# Altium integrated library Linear Technology PMIC-Switching Reg LTC1174-LTC3901.IntLib: 2647 symbols (part 101 of 310)
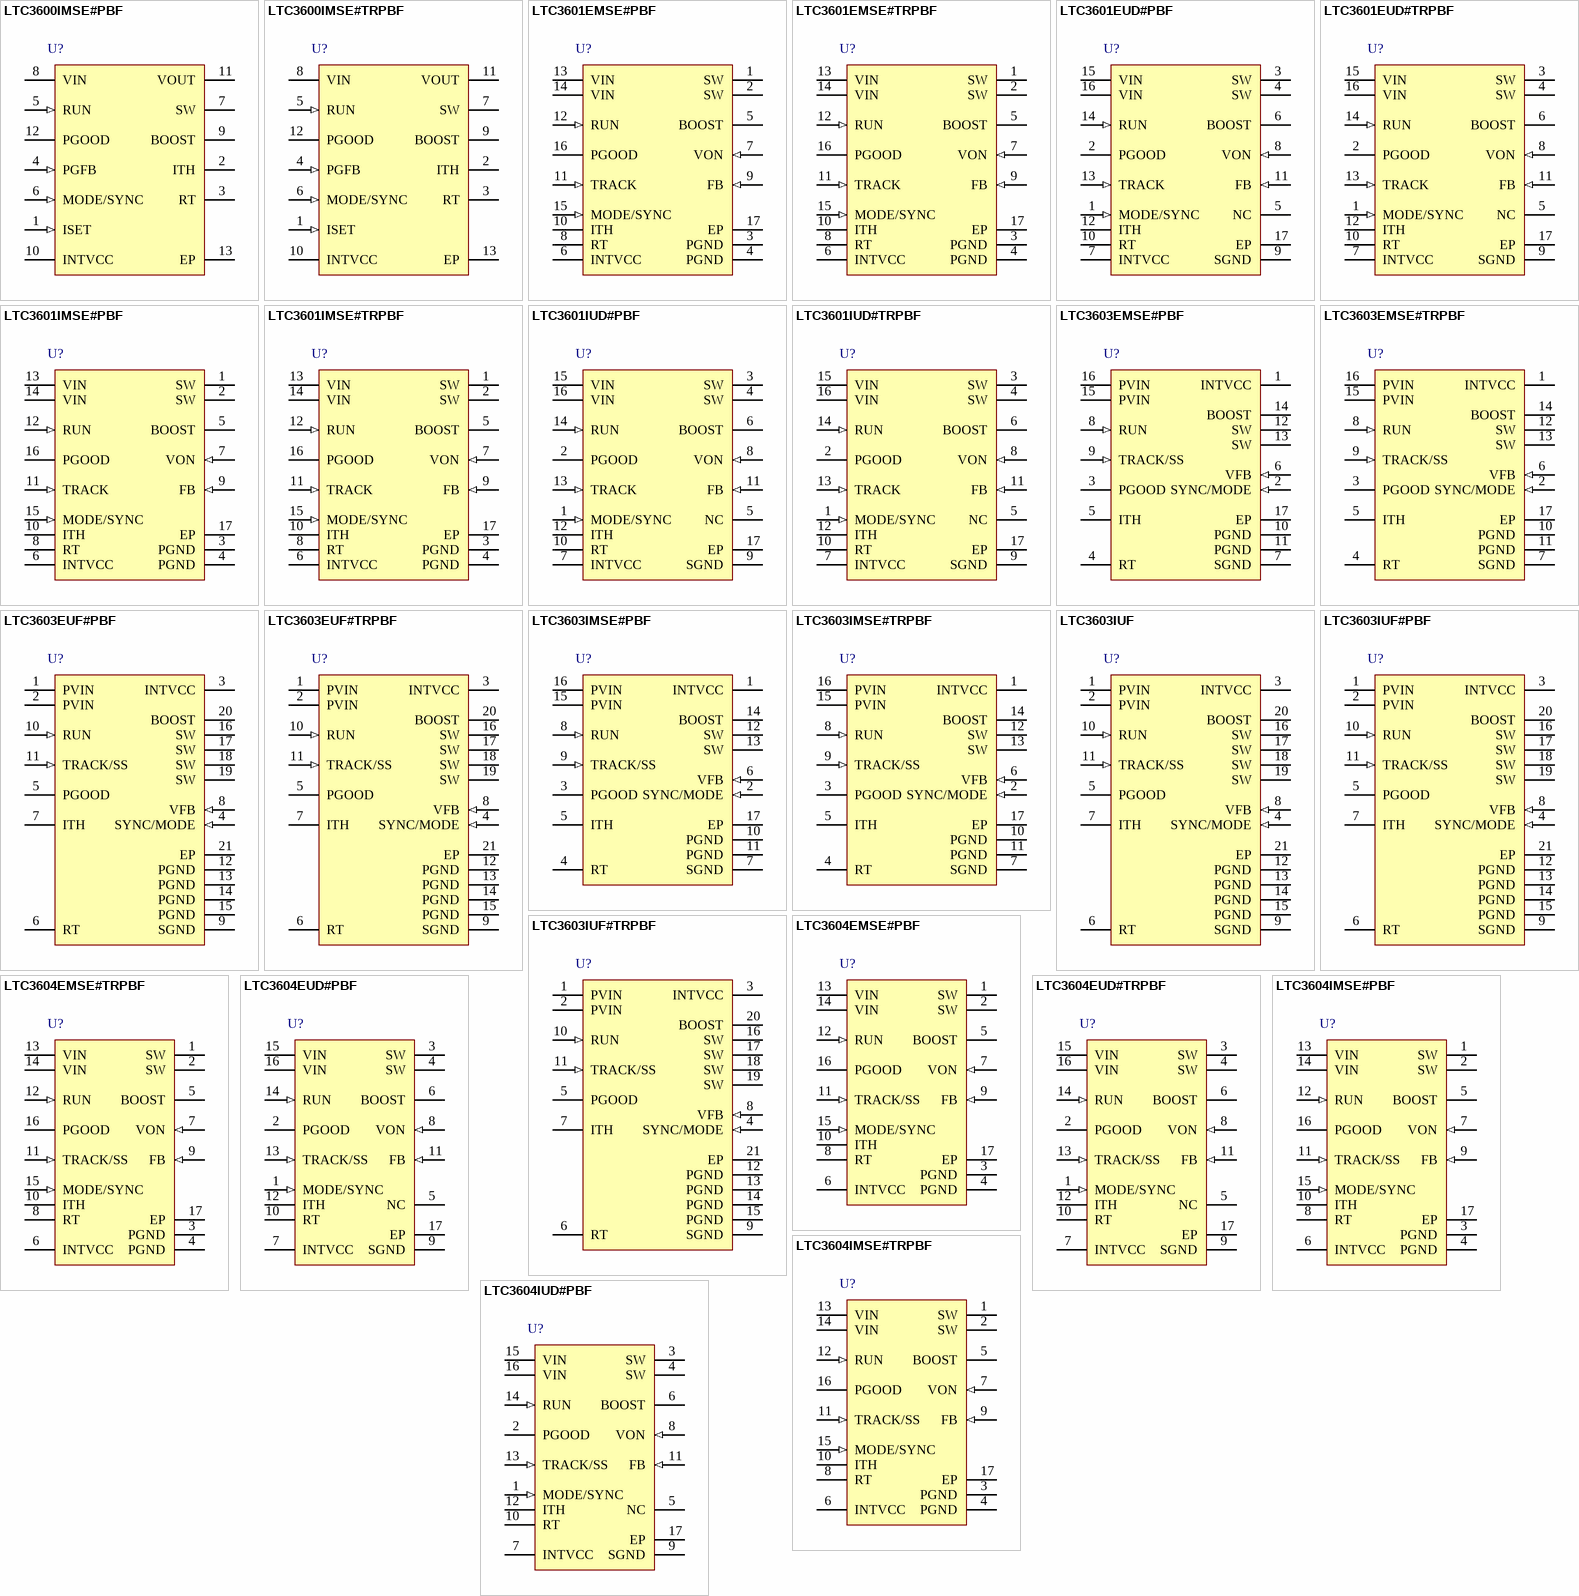
[diagram p173: symbols LTC3600IMSE#PBF to LTC3604IUD#PBF]

## LTC3604EMSE#TRPBF
designator U?
2.5 A, Monolithic Synchronous Step-Down Regulator, 16-pin SOP (MSE-16-EDP), -40 to 125 degC, Pb-Free, Tape and Reel; Manufacturer: Linear Technology; PartNumber: LTC3604EMSE#TRPBF; Number of Outputs: 1; PackageReference: MSE-16; PackageDescription: 16-Pin Plastic MSOP, Exposed Die Pad, Body 4.039 x 3 mm, Pitch 0.5 mm; Supplier 1: Digi-Key; Supplier Part Number 1: LTC3604EMSE#TRPBF-ND; RoHS: TRUE
footprint LT-MSE-16-EDP_N (SOP, 16-Leads, Body 4.1x3.1mm, Pitch 0.5mm, Thermal Pad 2.95x1.76mm, IPC Medium Density)
footprint LT-MSE-16-EDP_L (SOP, 16-Leads, Body 4.1x3.1mm, Pitch 0.5mm, Thermal Pad 2.95x1.76mm, IPC High Density)
footprint LT-MSE-16-EDP_M (SOP, 16-Leads, Body 4.1x3.1mm, Pitch 0.5mm, Thermal Pad 2.95x1.76mm, IPC Low Density)
pins: 1 SW (power) "Switch Node Output Pin. Connect this pin to the SW side of the external inductor. The normal operation voltage swing of this pin ranges from ground to PVIN.", 2 SW (power) "Switch Node Output Pin. Connect this pin to the SW side of the external inductor. The normal operation voltage swing of this pin ranges from ground to PVIN.", 3 PGND (power) "Power Ground Pin. The (-) terminal of the input bypass capacitor, CIN, and the (-) terminal of the output capacitor, COUT , should be tied to this pin with a low impedance connection. The exposed package pad must be soldered (See Datasheet)", 4 PGND (power) "Power Ground Pin. The (-) terminal of the input bypass capacitor, CIN, and the (-) terminal of the output capacitor, COUT , should be tied to this pin with a low impedance connection. The exposed package pad must be soldered (See Datasheet)", 5 BOOST "Boosted Floating Driver Supply Pin. The (+) terminal of the external bootstrap capacitor connects to this pin while the (-) terminal connects to the SW pin. The normal operation voltage swing of this pin ranges from a diode (See Datasheet)", 6 INTVCC (power) "Internal 3.3V Regulator Output Pin. This pin should be decoupled to PGND with a low ESR ceramic capacitor of 1uF or more.", 7 VON (in) "On-Time Voltage Input Pin. This pin sets the voltage trip point for the on-time comparator. Connect this pin to the regulated output to make the on-time proportional to the output voltage. The pin impedance is normally (See Datasheet)", 8 RT "Oscillator Frequency Program Pin. Connect an external resistor, between 80k to 400k, from this pin to SGND to program the LTC3604 switching frequency from 800kHz to 4MHz. When RT is tied to INTVCC, the switching frequency (See Datasheet)", 9 FB (in) "Output Voltage Feedback Pin. Input to the error amplifier that compares the feedback voltage to the internal 0.6V reference voltage. Connect this pin to the appropriate resistor divider network to program the desired output (See Datasheet)", 10 ITH "Error Amplifier Output and Switching Regulator Compensation Pin. Connect this pin to appropriate external components to compensate the regulator loop frequency response. Connect this pin to INTVCC to use the default internal (See Datasheet)", 11 TRACK/SS (in) "Output Voltage Tracking and Soft-Start Input Pin. Forcing a voltage below 0.6V on this pin overrides the internal reference input to the error amplifier. The LTC3604 will servo the FB pin to the TRACK voltage under this (See Datasheet)", 12 RUN (in) "Regulator Enable Pin. Enables chip operation by applying a voltage above 1.25V. A voltage below 1V on this pin places the part into shutdown. Do not float this pin.", 13 VIN (power) "Main Power Supply Input Pins. These pins should be closely decoupled to PGND with a low ESR capacitor of 10uF or more.", 14 VIN (power) "Main Power Supply Input Pins. These pins should be closely decoupled to PGND with a low ESR capacitor of 10uF or more.", 15 MODE/SYNC (in) "Mode Selection and External Synchronization Input Pin. This pin places the LTC3604 into forced continuous operation when tied to ground. High efficiency Burst Mode operation is enabled by either floating this pin or by tying (See Datasheet)", 16 PGOOD (hiz) "Open-Drain Power Good Output Pin. PGOOD is pulled to ground when the voltage at the FB pin is not within +/-8% (typical) of the internal 0.6V reference. PGOOD becomes high impedance once the voltage at the FB pin returns to (See Datasheet)", 17 EP (power) "Signal Ground Pin. This pin should have a low noise connection to reference ground. The feedback resistor network, external compensation network and RT resistor should be connected to this ground. In the MSE package, this (See Datasheet)"

## LTC3604EUD#PBF
designator U?
2.5 A, Monolithic Synchronous Step-Down Regulator, 16-pin QFN (UD-16), -40 to 125 degC, Pb-Free; Manufacturer: Linear Technology; PartNumber: LTC3604EUD#PBF; Number of Outputs: 1; PackageReference: UD-16; PackageDescription: 16-Pin Plastic QFN, Body 3 x 3 mm, Pitch 0.5 mm; Supplier 1: Digi-Key; Supplier Part Number 1: LTC3604EUD#PBF-ND; RoHS: TRUE; Code_JEDEC: MO-220
footprint LT-UD-16_N (QFN, 16-Leads, Body 3x3mm, Pitch 0.5mm, Thermal Pad 1.45x1.45mm, IPC Medium Density)
footprint LT-UD-16_L (QFN, 16-Leads, Body 3x3mm, Pitch 0.5mm, Thermal Pad 1.45x1.45mm, IPC High Density)
footprint LT-UD-16_M (QFN, 16-Leads, Body 3x3mm, Pitch 0.5mm, Thermal Pad 1.45x1.45mm, IPC Low Density)
pins: 1 MODE/SYNC (in) "Mode Selection and External Synchronization Input Pin. This pin places the LTC3604 into forced continuous operation when tied to ground. High efficiency Burst Mode operation is enabled by either floating this pin or by tying (See Datasheet)", 2 PGOOD (hiz) "Open-Drain Power Good Output Pin. PGOOD is pulled to ground when the voltage at the FB pin is not within +/-8% (typical) of the internal 0.6V reference. PGOOD becomes high impedance once the voltage at the FB pin returns to (See Datasheet)", 3 SW (power) "Switch Node Output Pin. Connect this pin to the SW side of the external inductor. The normal operation voltage swing of this pin ranges from ground to PVIN.", 4 SW (power) "Switch Node Output Pin. Connect this pin to the SW side of the external inductor. The normal operation voltage swing of this pin ranges from ground to PVIN.", 5 NC, 6 BOOST "Boosted Floating Driver Supply Pin. The (+) terminal of the external bootstrap capacitor connects to this pin while the (-) terminal connects to the SW pin. The normal operation voltage swing of this pin ranges from a diode (See Datasheet)", 7 INTVCC (power) "Internal 3.3V Regulator Output Pin. This pin should be decoupled to PGND with a low ESR ceramic capacitor of 1uF or more.", 8 VON (in) "On-Time Voltage Input Pin. This pin sets the voltage trip point for the on-time comparator. Connect this pin to the regulated output to make the on-time proportional to the output voltage. The pin impedance is normally (See Datasheet)", 9 SGND (power) "Signal Ground Pin. This pin should have a low noise connection to reference ground. The feedback resistor network, external compensation network and RT resistor should be connected to this ground. In the MSE package, this (See Datasheet)", 10 RT "Oscillator Frequency Program Pin. Connect an external resistor, between 80k to 400k, from this pin to SGND to program the LTC3604 switching frequency from 800kHz to 4MHz. When RT is tied to INTVCC, the switching frequency (See Datasheet)", 11 FB (in) "Output Voltage Feedback Pin. Input to the error amplifier that compares the feedback voltage to the internal 0.6V reference voltage. Connect this pin to the appropriate resistor divider network to program the desired output (See Datasheet)", 12 ITH "Error Amplifier Output and Switching Regulator Compensation Pin. Connect this pin to appropriate external components to compensate the regulator loop frequency response. Connect this pin to INTVCC to use the default internal (See Datasheet)", 13 TRACK/SS (in) "Output Voltage Tracking and Soft-Start Input Pin. Forcing a voltage below 0.6V on this pin overrides the internal reference input to the error amplifier. The LTC3604 will servo the FB pin to the TRACK voltage under this (See Datasheet)", 14 RUN (in) "Regulator Enable Pin. Enables chip operation by applying a voltage above 1.25V. A voltage below 1V on this pin places the part into shutdown. Do not float this pin.", 15 VIN (power) "Main Power Supply Input Pins. These pins should be closely decoupled to PGND with a low ESR capacitor of 10uF or more.", 16 VIN (power) "Main Power Supply Input Pins. These pins should be closely decoupled to PGND with a low ESR capacitor of 10uF or more.", 17 EP (power) "Power Ground Pin. The (-) terminal of the input bypass capacitor, CIN, and the (-) terminal of the output capacitor, COUT , should be tied to this pin with a low impedance connection. The exposed package pad must be soldered (See Datasheet)"

## LTC3604EUD#TRPBF
designator U?
2.5 A, Monolithic Synchronous Step-Down Regulator, 16-pin QFN (UD-16), -40 to 125 degC, Pb-Free, Tape and Reel; Manufacturer: Linear Technology; PartNumber: LTC3604EUD#TRPBF; Number of Outputs: 1; PackageReference: UD-16; PackageDescription: 16-Pin Plastic QFN, Body 3 x 3 mm, Pitch 0.5 mm; Supplier 1: Digi-Key; Supplier Part Number 1: LTC3604EUD#TRPBF-ND; RoHS: TRUE; Code_JEDEC: MO-220
footprint LT-UD-16_N (QFN, 16-Leads, Body 3x3mm, Pitch 0.5mm, Thermal Pad 1.45x1.45mm, IPC Medium Density)
footprint LT-UD-16_L (QFN, 16-Leads, Body 3x3mm, Pitch 0.5mm, Thermal Pad 1.45x1.45mm, IPC High Density)
footprint LT-UD-16_M (QFN, 16-Leads, Body 3x3mm, Pitch 0.5mm, Thermal Pad 1.45x1.45mm, IPC Low Density)
pins: 1 MODE/SYNC (in) "Mode Selection and External Synchronization Input Pin. This pin places the LTC3604 into forced continuous operation when tied to ground. High efficiency Burst Mode operation is enabled by either floating this pin or by tying (See Datasheet)", 2 PGOOD (hiz) "Open-Drain Power Good Output Pin. PGOOD is pulled to ground when the voltage at the FB pin is not within +/-8% (typical) of the internal 0.6V reference. PGOOD becomes high impedance once the voltage at the FB pin returns to (See Datasheet)", 3 SW (power) "Switch Node Output Pin. Connect this pin to the SW side of the external inductor. The normal operation voltage swing of this pin ranges from ground to PVIN.", 4 SW (power) "Switch Node Output Pin. Connect this pin to the SW side of the external inductor. The normal operation voltage swing of this pin ranges from ground to PVIN.", 5 NC, 6 BOOST "Boosted Floating Driver Supply Pin. The (+) terminal of the external bootstrap capacitor connects to this pin while the (-) terminal connects to the SW pin. The normal operation voltage swing of this pin ranges from a diode (See Datasheet)", 7 INTVCC (power) "Internal 3.3V Regulator Output Pin. This pin should be decoupled to PGND with a low ESR ceramic capacitor of 1uF or more.", 8 VON (in) "On-Time Voltage Input Pin. This pin sets the voltage trip point for the on-time comparator. Connect this pin to the regulated output to make the on-time proportional to the output voltage. The pin impedance is normally (See Datasheet)", 9 SGND (power) "Signal Ground Pin. This pin should have a low noise connection to reference ground. The feedback resistor network, external compensation network and RT resistor should be connected to this ground. In the MSE package, this (See Datasheet)", 10 RT "Oscillator Frequency Program Pin. Connect an external resistor, between 80k to 400k, from this pin to SGND to program the LTC3604 switching frequency from 800kHz to 4MHz. When RT is tied to INTVCC, the switching frequency (See Datasheet)", 11 FB (in) "Output Voltage Feedback Pin. Input to the error amplifier that compares the feedback voltage to the internal 0.6V reference voltage. Connect this pin to the appropriate resistor divider network to program the desired output (See Datasheet)", 12 ITH "Error Amplifier Output and Switching Regulator Compensation Pin. Connect this pin to appropriate external components to compensate the regulator loop frequency response. Connect this pin to INTVCC to use the default internal (See Datasheet)", 13 TRACK/SS (in) "Output Voltage Tracking and Soft-Start Input Pin. Forcing a voltage below 0.6V on this pin overrides the internal reference input to the error amplifier. The LTC3604 will servo the FB pin to the TRACK voltage under this (See Datasheet)", 14 RUN (in) "Regulator Enable Pin. Enables chip operation by applying a voltage above 1.25V. A voltage below 1V on this pin places the part into shutdown. Do not float this pin.", 15 VIN (power) "Main Power Supply Input Pins. These pins should be closely decoupled to PGND with a low ESR capacitor of 10uF or more.", 16 VIN (power) "Main Power Supply Input Pins. These pins should be closely decoupled to PGND with a low ESR capacitor of 10uF or more.", 17 EP (power) "Power Ground Pin. The (-) terminal of the input bypass capacitor, CIN, and the (-) terminal of the output capacitor, COUT , should be tied to this pin with a low impedance connection. The exposed package pad must be soldered (See Datasheet)"

## LTC3604IMSE#PBF
designator U?
2.5 A, Monolithic Synchronous Step-Down Regulator, 16-pin SOP (MSE-16-EDP), -40 to 125 degC, Pb-Free; Manufacturer: Linear Technology; PartNumber: LTC3604IMSE#PBF; Number of Outputs: 1; PackageReference: MSE-16; PackageDescription: 16-Pin Plastic MSOP, Exposed Die Pad, Body 4.039 x 3 mm, Pitch 0.5 mm; Supplier 1: Digi-Key; Supplier Part Number 1: LTC3604IMSE#PBF-ND; RoHS: TRUE
footprint LT-MSE-16-EDP_N (SOP, 16-Leads, Body 4.1x3.1mm, Pitch 0.5mm, Thermal Pad 2.95x1.76mm, IPC Medium Density)
footprint LT-MSE-16-EDP_L (SOP, 16-Leads, Body 4.1x3.1mm, Pitch 0.5mm, Thermal Pad 2.95x1.76mm, IPC High Density)
footprint LT-MSE-16-EDP_M (SOP, 16-Leads, Body 4.1x3.1mm, Pitch 0.5mm, Thermal Pad 2.95x1.76mm, IPC Low Density)
pins: 1 SW (power) "Switch Node Output Pin. Connect this pin to the SW side of the external inductor. The normal operation voltage swing of this pin ranges from ground to PVIN.", 2 SW (power) "Switch Node Output Pin. Connect this pin to the SW side of the external inductor. The normal operation voltage swing of this pin ranges from ground to PVIN.", 3 PGND (power) "Power Ground Pin. The (-) terminal of the input bypass capacitor, CIN, and the (-) terminal of the output capacitor, COUT , should be tied to this pin with a low impedance connection. The exposed package pad must be soldered (See Datasheet)", 4 PGND (power) "Power Ground Pin. The (-) terminal of the input bypass capacitor, CIN, and the (-) terminal of the output capacitor, COUT , should be tied to this pin with a low impedance connection. The exposed package pad must be soldered (See Datasheet)", 5 BOOST "Boosted Floating Driver Supply Pin. The (+) terminal of the external bootstrap capacitor connects to this pin while the (-) terminal connects to the SW pin. The normal operation voltage swing of this pin ranges from a diode (See Datasheet)", 6 INTVCC (power) "Internal 3.3V Regulator Output Pin. This pin should be decoupled to PGND with a low ESR ceramic capacitor of 1uF or more.", 7 VON (in) "On-Time Voltage Input Pin. This pin sets the voltage trip point for the on-time comparator. Connect this pin to the regulated output to make the on-time proportional to the output voltage. The pin impedance is normally (See Datasheet)", 8 RT "Oscillator Frequency Program Pin. Connect an external resistor, between 80k to 400k, from this pin to SGND to program the LTC3604 switching frequency from 800kHz to 4MHz. When RT is tied to INTVCC, the switching frequency (See Datasheet)", 9 FB (in) "Output Voltage Feedback Pin. Input to the error amplifier that compares the feedback voltage to the internal 0.6V reference voltage. Connect this pin to the appropriate resistor divider network to program the desired output (See Datasheet)", 10 ITH "Error Amplifier Output and Switching Regulator Compensation Pin. Connect this pin to appropriate external components to compensate the regulator loop frequency response. Connect this pin to INTVCC to use the default internal (See Datasheet)", 11 TRACK/SS (in) "Output Voltage Tracking and Soft-Start Input Pin. Forcing a voltage below 0.6V on this pin overrides the internal reference input to the error amplifier. The LTC3604 will servo the FB pin to the TRACK voltage under this (See Datasheet)", 12 RUN (in) "Regulator Enable Pin. Enables chip operation by applying a voltage above 1.25V. A voltage below 1V on this pin places the part into shutdown. Do not float this pin.", 13 VIN (power) "Main Power Supply Input Pins. These pins should be closely decoupled to PGND with a low ESR capacitor of 10uF or more.", 14 VIN (power) "Main Power Supply Input Pins. These pins should be closely decoupled to PGND with a low ESR capacitor of 10uF or more.", 15 MODE/SYNC (in) "Mode Selection and External Synchronization Input Pin. This pin places the LTC3604 into forced continuous operation when tied to ground. High efficiency Burst Mode operation is enabled by either floating this pin or by tying (See Datasheet)", 16 PGOOD (hiz) "Open-Drain Power Good Output Pin. PGOOD is pulled to ground when the voltage at the FB pin is not within +/-8% (typical) of the internal 0.6V reference. PGOOD becomes high impedance once the voltage at the FB pin returns to (See Datasheet)", 17 EP (power) "Signal Ground Pin. This pin should have a low noise connection to reference ground. The feedback resistor network, external compensation network and RT resistor should be connected to this ground. In the MSE package, this (See Datasheet)"

## LTC3604IMSE#TRPBF
designator U?
2.5 A, Monolithic Synchronous Step-Down Regulator, 16-pin SOP (MSE-16-EDP), -40 to 125 degC, Pb-Free, Tape and Reel; Manufacturer: Linear Technology; PartNumber: LTC3604IMSE#TRPBF; Number of Outputs: 1; PackageReference: MSE-16; PackageDescription: 16-Pin Plastic MSOP, Exposed Die Pad, Body 4.039 x 3 mm, Pitch 0.5 mm; Supplier 1: Digi-Key; Supplier Part Number 1: LTC3604IMSE#TRPBF-ND; RoHS: TRUE
footprint LT-MSE-16-EDP_N (SOP, 16-Leads, Body 4.1x3.1mm, Pitch 0.5mm, Thermal Pad 2.95x1.76mm, IPC Medium Density)
footprint LT-MSE-16-EDP_L (SOP, 16-Leads, Body 4.1x3.1mm, Pitch 0.5mm, Thermal Pad 2.95x1.76mm, IPC High Density)
footprint LT-MSE-16-EDP_M (SOP, 16-Leads, Body 4.1x3.1mm, Pitch 0.5mm, Thermal Pad 2.95x1.76mm, IPC Low Density)
pins: 1 SW (power) "Switch Node Output Pin. Connect this pin to the SW side of the external inductor. The normal operation voltage swing of this pin ranges from ground to PVIN.", 2 SW (power) "Switch Node Output Pin. Connect this pin to the SW side of the external inductor. The normal operation voltage swing of this pin ranges from ground to PVIN.", 3 PGND (power) "Power Ground Pin. The (-) terminal of the input bypass capacitor, CIN, and the (-) terminal of the output capacitor, COUT , should be tied to this pin with a low impedance connection. The exposed package pad must be soldered (See Datasheet)", 4 PGND (power) "Power Ground Pin. The (-) terminal of the input bypass capacitor, CIN, and the (-) terminal of the output capacitor, COUT , should be tied to this pin with a low impedance connection. The exposed package pad must be soldered (See Datasheet)", 5 BOOST "Boosted Floating Driver Supply Pin. The (+) terminal of the external bootstrap capacitor connects to this pin while the (-) terminal connects to the SW pin. The normal operation voltage swing of this pin ranges from a diode (See Datasheet)", 6 INTVCC (power) "Internal 3.3V Regulator Output Pin. This pin should be decoupled to PGND with a low ESR ceramic capacitor of 1uF or more.", 7 VON (in) "On-Time Voltage Input Pin. This pin sets the voltage trip point for the on-time comparator. Connect this pin to the regulated output to make the on-time proportional to the output voltage. The pin impedance is normally (See Datasheet)", 8 RT "Oscillator Frequency Program Pin. Connect an external resistor, between 80k to 400k, from this pin to SGND to program the LTC3604 switching frequency from 800kHz to 4MHz. When RT is tied to INTVCC, the switching frequency (See Datasheet)", 9 FB (in) "Output Voltage Feedback Pin. Input to the error amplifier that compares the feedback voltage to the internal 0.6V reference voltage. Connect this pin to the appropriate resistor divider network to program the desired output (See Datasheet)", 10 ITH "Error Amplifier Output and Switching Regulator Compensation Pin. Connect this pin to appropriate external components to compensate the regulator loop frequency response. Connect this pin to INTVCC to use the default internal (See Datasheet)", 11 TRACK/SS (in) "Output Voltage Tracking and Soft-Start Input Pin. Forcing a voltage below 0.6V on this pin overrides the internal reference input to the error amplifier. The LTC3604 will servo the FB pin to the TRACK voltage under this (See Datasheet)", 12 RUN (in) "Regulator Enable Pin. Enables chip operation by applying a voltage above 1.25V. A voltage below 1V on this pin places the part into shutdown. Do not float this pin.", 13 VIN (power) "Main Power Supply Input Pins. These pins should be closely decoupled to PGND with a low ESR capacitor of 10uF or more.", 14 VIN (power) "Main Power Supply Input Pins. These pins should be closely decoupled to PGND with a low ESR capacitor of 10uF or more.", 15 MODE/SYNC (in) "Mode Selection and External Synchronization Input Pin. This pin places the LTC3604 into forced continuous operation when tied to ground. High efficiency Burst Mode operation is enabled by either floating this pin or by tying (See Datasheet)", 16 PGOOD (hiz) "Open-Drain Power Good Output Pin. PGOOD is pulled to ground when the voltage at the FB pin is not within +/-8% (typical) of the internal 0.6V reference. PGOOD becomes high impedance once the voltage at the FB pin returns to (See Datasheet)", 17 EP (power) "Signal Ground Pin. This pin should have a low noise connection to reference ground. The feedback resistor network, external compensation network and RT resistor should be connected to this ground. In the MSE package, this (See Datasheet)"

## LTC3604IUD#PBF
designator U?
2.5 A, Monolithic Synchronous Step-Down Regulator, 16-pin QFN (UD-16), -40 to 125 degC, Pb-Free; Manufacturer: Linear Technology; PartNumber: LTC3604IUD#PBF; Number of Outputs: 1; PackageReference: UD-16; PackageDescription: 16-Pin Plastic QFN, Body 3 x 3 mm, Pitch 0.5 mm; Supplier 1: Digi-Key; Supplier Part Number 1: LTC3604IUD#PBF-ND; RoHS: TRUE; Code_JEDEC: MO-220
footprint LT-UD-16_N (QFN, 16-Leads, Body 3x3mm, Pitch 0.5mm, Thermal Pad 1.45x1.45mm, IPC Medium Density)
footprint LT-UD-16_L (QFN, 16-Leads, Body 3x3mm, Pitch 0.5mm, Thermal Pad 1.45x1.45mm, IPC High Density)
footprint LT-UD-16_M (QFN, 16-Leads, Body 3x3mm, Pitch 0.5mm, Thermal Pad 1.45x1.45mm, IPC Low Density)
pins: 1 MODE/SYNC (in) "Mode Selection and External Synchronization Input Pin. This pin places the LTC3604 into forced continuous operation when tied to ground. High efficiency Burst Mode operation is enabled by either floating this pin or by tying (See Datasheet)", 2 PGOOD (hiz) "Open-Drain Power Good Output Pin. PGOOD is pulled to ground when the voltage at the FB pin is not within +/-8% (typical) of the internal 0.6V reference. PGOOD becomes high impedance once the voltage at the FB pin returns to (See Datasheet)", 3 SW (power) "Switch Node Output Pin. Connect this pin to the SW side of the external inductor. The normal operation voltage swing of this pin ranges from ground to PVIN.", 4 SW (power) "Switch Node Output Pin. Connect this pin to the SW side of the external inductor. The normal operation voltage swing of this pin ranges from ground to PVIN.", 5 NC, 6 BOOST "Boosted Floating Driver Supply Pin. The (+) terminal of the external bootstrap capacitor connects to this pin while the (-) terminal connects to the SW pin. The normal operation voltage swing of this pin ranges from a diode (See Datasheet)", 7 INTVCC (power) "Internal 3.3V Regulator Output Pin. This pin should be decoupled to PGND with a low ESR ceramic capacitor of 1uF or more.", 8 VON (in) "On-Time Voltage Input Pin. This pin sets the voltage trip point for the on-time comparator. Connect this pin to the regulated output to make the on-time proportional to the output voltage. The pin impedance is normally (See Datasheet)", 9 SGND (power) "Signal Ground Pin. This pin should have a low noise connection to reference ground. The feedback resistor network, external compensation network and RT resistor should be connected to this ground. In the MSE package, this (See Datasheet)", 10 RT "Oscillator Frequency Program Pin. Connect an external resistor, between 80k to 400k, from this pin to SGND to program the LTC3604 switching frequency from 800kHz to 4MHz. When RT is tied to INTVCC, the switching frequency (See Datasheet)", 11 FB (in) "Output Voltage Feedback Pin. Input to the error amplifier that compares the feedback voltage to the internal 0.6V reference voltage. Connect this pin to the appropriate resistor divider network to program the desired output (See Datasheet)", 12 ITH "Error Amplifier Output and Switching Regulator Compensation Pin. Connect this pin to appropriate external components to compensate the regulator loop frequency response. Connect this pin to INTVCC to use the default internal (See Datasheet)", 13 TRACK/SS (in) "Output Voltage Tracking and Soft-Start Input Pin. Forcing a voltage below 0.6V on this pin overrides the internal reference input to the error amplifier. The LTC3604 will servo the FB pin to the TRACK voltage under this (See Datasheet)", 14 RUN (in) "Regulator Enable Pin. Enables chip operation by applying a voltage above 1.25V. A voltage below 1V on this pin places the part into shutdown. Do not float this pin.", 15 VIN (power) "Main Power Supply Input Pins. These pins should be closely decoupled to PGND with a low ESR capacitor of 10uF or more.", 16 VIN (power) "Main Power Supply Input Pins. These pins should be closely decoupled to PGND with a low ESR capacitor of 10uF or more.", 17 EP (power) "Power Ground Pin. The (-) terminal of the input bypass capacitor, CIN, and the (-) terminal of the output capacitor, COUT , should be tied to this pin with a low impedance connection. The exposed package pad must be soldered (See Datasheet)"

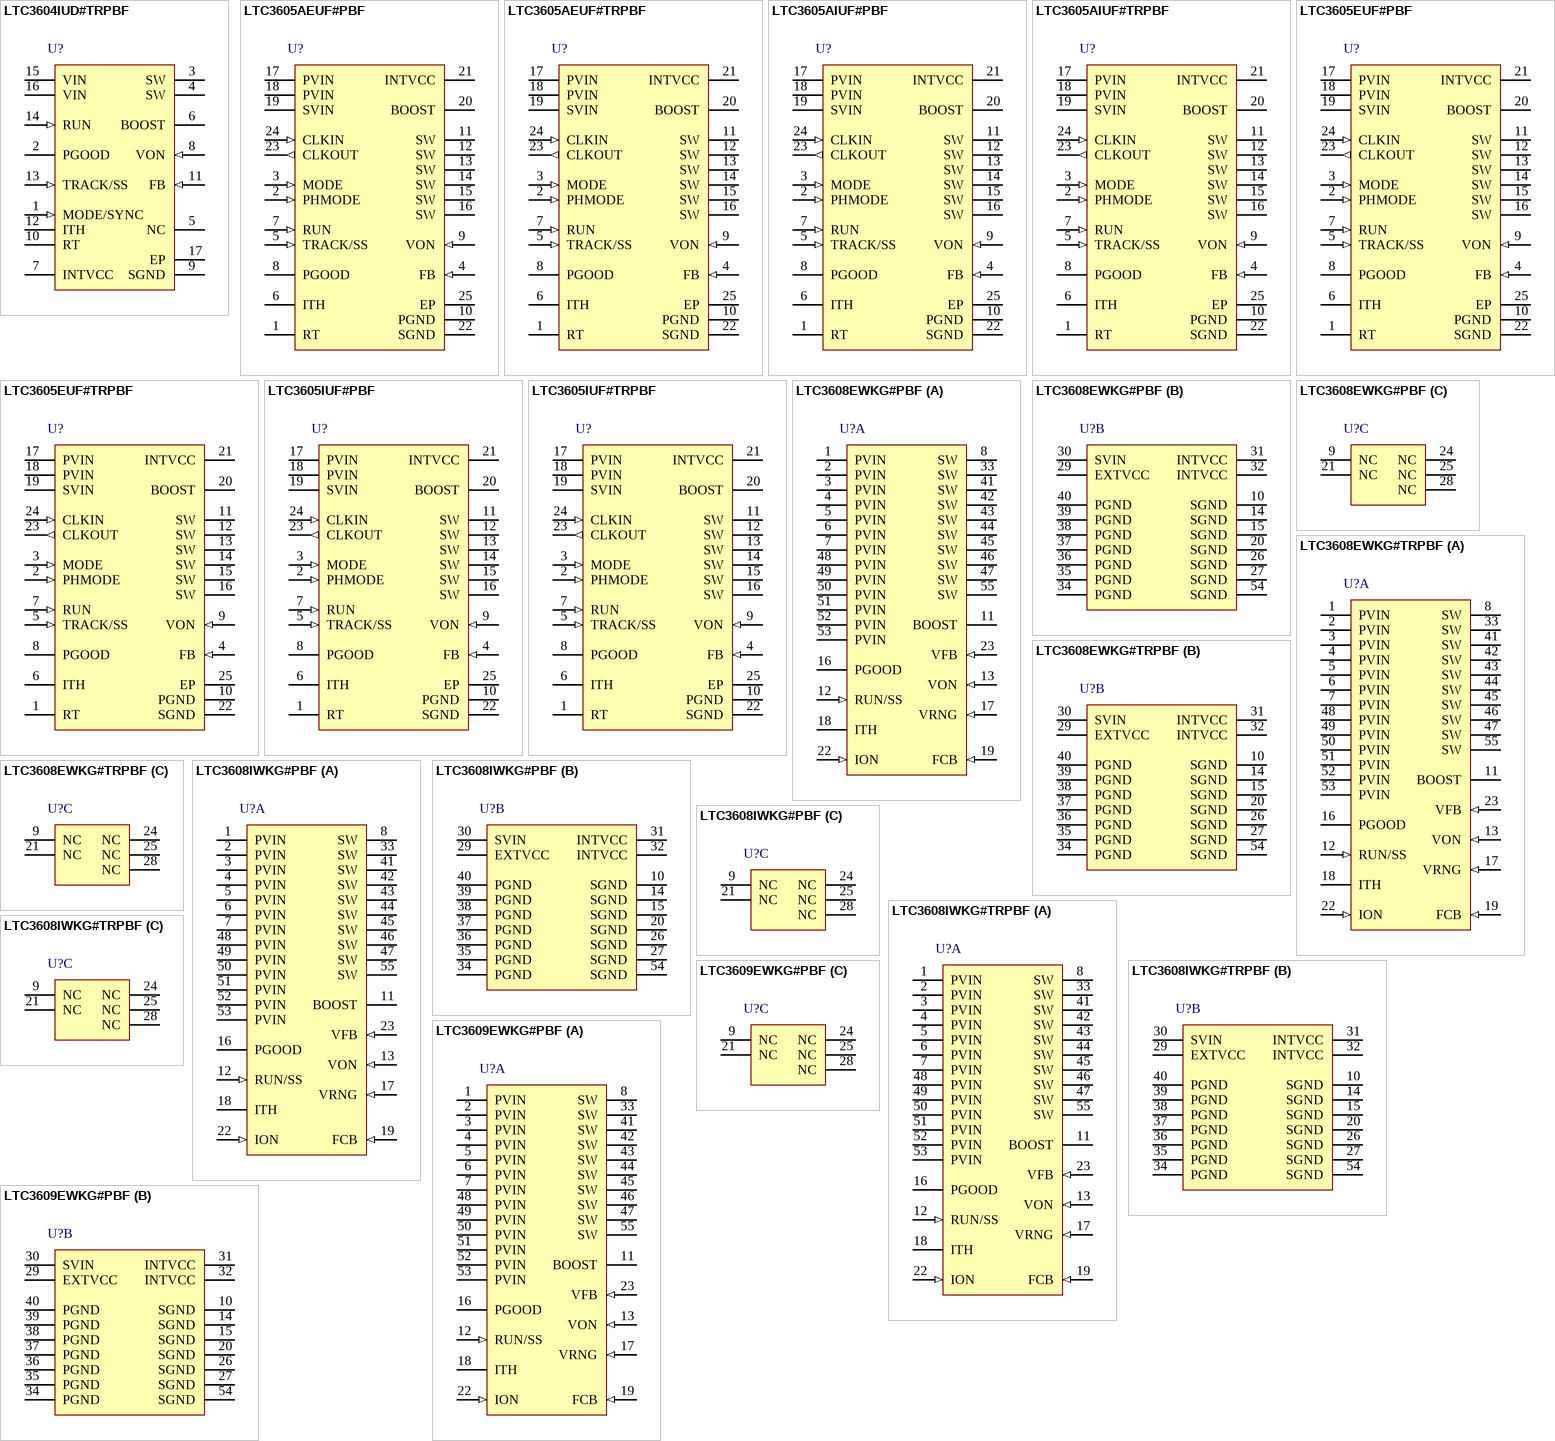
[diagram p37: symbols LTC3604IUD#TRPBF to LTC3609EWKG#PBF]

## LTC3604IUD#TRPBF
designator U?
2.5 A, Monolithic Synchronous Step-Down Regulator, 16-pin QFN (UD-16), -40 to 125 degC, Pb-Free, Tape and Reel; Manufacturer: Linear Technology; PartNumber: LTC3604IUD#TRPBF; Number of Outputs: 1; PackageReference: UD-16; PackageDescription: 16-Pin Plastic QFN, Body 3 x 3 mm, Pitch 0.5 mm; Supplier 1: Digi-Key; Supplier Part Number 1: LTC3604IUD#TRPBF-ND; RoHS: TRUE; Code_JEDEC: MO-220
footprint LT-UD-16_N (QFN, 16-Leads, Body 3x3mm, Pitch 0.5mm, Thermal Pad 1.45x1.45mm, IPC Medium Density)
footprint LT-UD-16_L (QFN, 16-Leads, Body 3x3mm, Pitch 0.5mm, Thermal Pad 1.45x1.45mm, IPC High Density)
footprint LT-UD-16_M (QFN, 16-Leads, Body 3x3mm, Pitch 0.5mm, Thermal Pad 1.45x1.45mm, IPC Low Density)
pins: 1 MODE/SYNC (in) "Mode Selection and External Synchronization Input Pin. This pin places the LTC3604 into forced continuous operation when tied to ground. High efficiency Burst Mode operation is enabled by either floating this pin or by tying (See Datasheet)", 2 PGOOD (hiz) "Open-Drain Power Good Output Pin. PGOOD is pulled to ground when the voltage at the FB pin is not within +/-8% (typical) of the internal 0.6V reference. PGOOD becomes high impedance once the voltage at the FB pin returns to (See Datasheet)", 3 SW (power) "Switch Node Output Pin. Connect this pin to the SW side of the external inductor. The normal operation voltage swing of this pin ranges from ground to PVIN.", 4 SW (power) "Switch Node Output Pin. Connect this pin to the SW side of the external inductor. The normal operation voltage swing of this pin ranges from ground to PVIN.", 5 NC, 6 BOOST "Boosted Floating Driver Supply Pin. The (+) terminal of the external bootstrap capacitor connects to this pin while the (-) terminal connects to the SW pin. The normal operation voltage swing of this pin ranges from a diode (See Datasheet)", 7 INTVCC (power) "Internal 3.3V Regulator Output Pin. This pin should be decoupled to PGND with a low ESR ceramic capacitor of 1uF or more.", 8 VON (in) "On-Time Voltage Input Pin. This pin sets the voltage trip point for the on-time comparator. Connect this pin to the regulated output to make the on-time proportional to the output voltage. The pin impedance is normally (See Datasheet)", 9 SGND (power) "Signal Ground Pin. This pin should have a low noise connection to reference ground. The feedback resistor network, external compensation network and RT resistor should be connected to this ground. In the MSE package, this (See Datasheet)", 10 RT "Oscillator Frequency Program Pin. Connect an external resistor, between 80k to 400k, from this pin to SGND to program the LTC3604 switching frequency from 800kHz to 4MHz. When RT is tied to INTVCC, the switching frequency (See Datasheet)", 11 FB (in) "Output Voltage Feedback Pin. Input to the error amplifier that compares the feedback voltage to the internal 0.6V reference voltage. Connect this pin to the appropriate resistor divider network to program the desired output (See Datasheet)", 12 ITH "Error Amplifier Output and Switching Regulator Compensation Pin. Connect this pin to appropriate external components to compensate the regulator loop frequency response. Connect this pin to INTVCC to use the default internal (See Datasheet)", 13 TRACK/SS (in) "Output Voltage Tracking and Soft-Start Input Pin. Forcing a voltage below 0.6V on this pin overrides the internal reference input to the error amplifier. The LTC3604 will servo the FB pin to the TRACK voltage under this (See Datasheet)", 14 RUN (in) "Regulator Enable Pin. Enables chip operation by applying a voltage above 1.25V. A voltage below 1V on this pin places the part into shutdown. Do not float this pin.", 15 VIN (power) "Main Power Supply Input Pins. These pins should be closely decoupled to PGND with a low ESR capacitor of 10uF or more.", 16 VIN (power) "Main Power Supply Input Pins. These pins should be closely decoupled to PGND with a low ESR capacitor of 10uF or more.", 17 EP (power) "Power Ground Pin. The (-) terminal of the input bypass capacitor, CIN, and the (-) terminal of the output capacitor, COUT , should be tied to this pin with a low impedance connection. The exposed package pad must be soldered (See Datasheet)"

## LTC3605AEUF#PBF
designator U?
5 A Synchronous Step-Down Regulator, 24-pin QFN (UF-24), -40 to 125 degC, Pb-Free; Manufacturer: Linear Technology; PartNumber: LTC3605AEUF#PBF; Number of Outputs: 1; PackageReference: UF24; PackageDescription: 24-Pin Plastic QFN, Body 4 x 4 mm, Pitch 0.5 mm; Supplier 1: Digi-Key; Supplier Part Number 1: LTC3605AEUF#PBF-ND; RoHS: TRUE; Code_JEDEC: MO-220
footprint LT-UF-24_N (QFN, 24-Leads, Body 4.1x4.1mm, Pitch 0.5mm, Thermal Pad 2.45x2.45mm, IPC Medium Density)
footprint LT-UF-24_L (QFN, 24-Leads, Body 4.1x4.1mm, Pitch 0.5mm, Thermal Pad 2.45x2.45mm, IPC High Density)
footprint LT-UF-24_M (QFN, 24-Leads, Body 4.1x4.1mm, Pitch 0.5mm, Thermal Pad 2.45x2.45mm, IPC Low Density)
pins: 1 RT "Oscillator Frequency Programming Pin. Connect an external resistor (between 200k to 40k) from RT to SGND to program the frequency from 800kHz to 4MHz. Since the synchronization range is +/-30% of set frequency, be sure that (See Datasheet)", 2 PHMODE (in) "Control Input to Phase Selector. Determines the phase relationship between internal oscillator and CLKOUT. Tie it to INTVCC for 2-phase operation, tie it to SGND for 3-phase operation, and tie it to INTVCC/2 for 4-phase (See Datasheet)", 3 MODE (in) "Operation Mode Select. Tie this pin to INTVCC to force continuous synchronous operation at all output loads. Tying it to SGND enables discontinuous mode operation at light loads. Tying this pin to INTVCC/2 shuts off the (See Datasheet)", 4 FB (in) "Output Feedback Voltage. Input to the error amplifier that compares the feedback voltage to the internal 0.6V reference voltage. This pin is normally connected to a resistive divider from the output voltage.", 5 TRACK/SS (in) "Output Tracking and Soft-Start Pin. Allows the user to control the rise time of the output voltage. Putting a voltage below 0.6V on this pin bypasses the internal reference input to the error amplifier, instead it servos the (See Datasheet)", 6 ITH "Error Amplifier Output and Switching Regulator Compensation Point. The current comparator’s trip threshold is linearly proportional to this voltage, whose normal range is from 0.3V to 1.8V. Tying this pin to INTVC(See Datasheet)", 7 RUN (in) "Run Control Input. Enables chip operation by tying RUN above 1.2V. Tying it below 1.1V shuts down the part.", 8 PGOOD (oc) "Output Power Good with Open-Drain Logic. PGOOD is pulled to ground when the voltage on the FB pin is not within +/-10% of the internal 0.6V reference.", 9 VON (in) "On-Time Voltage Input. Voltage trip point for the on-time comparator. Tying this pin to the output voltage makes the on-time proportional to VOUT and keeps the switching frequency constant at different VOUT. However, when (See Datasheet)", 10 PGND (power) "Power Ground. Return path of internal power MOSFETs. Connect this pin to the negative terminals of the input capacitor and output capacitor. The exposed pad must be soldered to the PCB ground for electrical contact and rated (See Datasheet)", 11 SW (power) "Switch Node Connection to External Inductor. Voltage swing of SW is from a diode voltage drop below ground to PVIN.", 12 SW (power) "Switch Node Connection to External Inductor. Voltage swing of SW is from a diode voltage drop below ground to PVIN.", 13 SW (power) "Switch Node Connection to External Inductor. Voltage swing of SW is from a diode voltage drop below ground to PVIN.", 14 SW (power) "Switch Node Connection to External Inductor. Voltage swing of SW is from a diode voltage drop below ground to PVIN.", 15 SW (power) "Switch Node Connection to External Inductor. Voltage swing of SW is from a diode voltage drop below ground to PVIN.", 16 SW (power) "Switch Node Connection to External Inductor. Voltage swing of SW is from a diode voltage drop below ground to PVIN.", 17 PVIN (power) "Power VIN. Input voltage to the onchip power MOSFETs.", 18 PVIN (power) "Power VIN. Input voltage to the onchip power MOSFETs.", 19 SVIN (power) "Signal VIN. Filtered input voltage to the on-chip 3.3V regulator. Connect a (1ohm to 10ohm) resistor between SVIN and PVIN and bypass to GND with a 0.1uF capacitor.", 20 BOOST "Boosted Floating Driver Supply for Internal Top Power MOSFET. The (+) terminal of the bootstrap capacitor connects here. This pin swings from a diode voltage drop below INTVCC up to PVIN + INTVCC.", 21 INTVCC (power) "Internal 3.3V Regulator Output. The internal power drivers and control circuits are powered from this voltage. Decouple this pin to power ground with a minimum of 1uF low ESR ceramic capacitor.", 22 SGND (power) "Signal Ground Connection.", 23 CLKOUT (out) "Output Clock Signal for PolyPhase Operation. The phase of CLKOUT with respect to CLKIN is determined by the state of the PHMODE pin. CLKOUT’s peak-to-peak amplitude is INTVCC to GND.", 24 CLKIN (in) "External Synchronization Input to Phase Detector. This pin is internally terminated to SGND with 20k. The phase-locked loop will force the top power NMOS’s turn on signal to be synchronized with the rising edge of th(See Datasheet)", 25 EP (power) "Power Ground. Return path of internal power MOSFETs. Connect this pin to the negative terminals of the input capacitor and output capacitor. The exposed pad must be soldered to the PCB ground for electrical contact and rated (See Datasheet)"

## LTC3605AEUF#TRPBF
designator U?
5 A Synchronous Step-Down Regulator, 24-pin QFN (UF-24), -40 to 125 degC, Pb-Free, Tape and Reel; Manufacturer: Linear Technology; PartNumber: LTC3605AEUF#TRPBF; Number of Outputs: 1; PackageReference: UF24; PackageDescription: 24-Pin Plastic QFN, Body 4 x 4 mm, Pitch 0.5 mm; Supplier 1: Digi-Key; Supplier Part Number 1: LTC3605AEUF#TRPBF-ND; RoHS: TRUE; Code_JEDEC: MO-220
footprint LT-UF-24_N (QFN, 24-Leads, Body 4.1x4.1mm, Pitch 0.5mm, Thermal Pad 2.45x2.45mm, IPC Medium Density)
footprint LT-UF-24_L (QFN, 24-Leads, Body 4.1x4.1mm, Pitch 0.5mm, Thermal Pad 2.45x2.45mm, IPC High Density)
footprint LT-UF-24_M (QFN, 24-Leads, Body 4.1x4.1mm, Pitch 0.5mm, Thermal Pad 2.45x2.45mm, IPC Low Density)
pins: 1 RT "Oscillator Frequency Programming Pin. Connect an external resistor (between 200k to 40k) from RT to SGND to program the frequency from 800kHz to 4MHz. Since the synchronization range is +/-30% of set frequency, be sure that (See Datasheet)", 2 PHMODE (in) "Control Input to Phase Selector. Determines the phase relationship between internal oscillator and CLKOUT. Tie it to INTVCC for 2-phase operation, tie it to SGND for 3-phase operation, and tie it to INTVCC/2 for 4-phase (See Datasheet)", 3 MODE (in) "Operation Mode Select. Tie this pin to INTVCC to force continuous synchronous operation at all output loads. Tying it to SGND enables discontinuous mode operation at light loads. Tying this pin to INTVCC/2 shuts off the (See Datasheet)", 4 FB (in) "Output Feedback Voltage. Input to the error amplifier that compares the feedback voltage to the internal 0.6V reference voltage. This pin is normally connected to a resistive divider from the output voltage.", 5 TRACK/SS (in) "Output Tracking and Soft-Start Pin. Allows the user to control the rise time of the output voltage. Putting a voltage below 0.6V on this pin bypasses the internal reference input to the error amplifier, instead it servos the (See Datasheet)", 6 ITH "Error Amplifier Output and Switching Regulator Compensation Point. The current comparator’s trip threshold is linearly proportional to this voltage, whose normal range is from 0.3V to 1.8V. Tying this pin to INTVC(See Datasheet)", 7 RUN (in) "Run Control Input. Enables chip operation by tying RUN above 1.2V. Tying it below 1.1V shuts down the part.", 8 PGOOD (oc) "Output Power Good with Open-Drain Logic. PGOOD is pulled to ground when the voltage on the FB pin is not within +/-10% of the internal 0.6V reference.", 9 VON (in) "On-Time Voltage Input. Voltage trip point for the on-time comparator. Tying this pin to the output voltage makes the on-time proportional to VOUT and keeps the switching frequency constant at different VOUT. However, when (See Datasheet)", 10 PGND (power) "Power Ground. Return path of internal power MOSFETs. Connect this pin to the negative terminals of the input capacitor and output capacitor. The exposed pad must be soldered to the PCB ground for electrical contact and rated (See Datasheet)", 11 SW (power) "Switch Node Connection to External Inductor. Voltage swing of SW is from a diode voltage drop below ground to PVIN.", 12 SW (power) "Switch Node Connection to External Inductor. Voltage swing of SW is from a diode voltage drop below ground to PVIN.", 13 SW (power) "Switch Node Connection to External Inductor. Voltage swing of SW is from a diode voltage drop below ground to PVIN.", 14 SW (power) "Switch Node Connection to External Inductor. Voltage swing of SW is from a diode voltage drop below ground to PVIN.", 15 SW (power) "Switch Node Connection to External Inductor. Voltage swing of SW is from a diode voltage drop below ground to PVIN.", 16 SW (power) "Switch Node Connection to External Inductor. Voltage swing of SW is from a diode voltage drop below ground to PVIN.", 17 PVIN (power) "Power VIN. Input voltage to the onchip power MOSFETs.", 18 PVIN (power) "Power VIN. Input voltage to the onchip power MOSFETs.", 19 SVIN (power) "Signal VIN. Filtered input voltage to the on-chip 3.3V regulator. Connect a (1ohm to 10ohm) resistor between SVIN and PVIN and bypass to GND with a 0.1uF capacitor.", 20 BOOST "Boosted Floating Driver Supply for Internal Top Power MOSFET. The (+) terminal of the bootstrap capacitor connects here. This pin swings from a diode voltage drop below INTVCC up to PVIN + INTVCC.", 21 INTVCC (power) "Internal 3.3V Regulator Output. The internal power drivers and control circuits are powered from this voltage. Decouple this pin to power ground with a minimum of 1uF low ESR ceramic capacitor.", 22 SGND (power) "Signal Ground Connection.", 23 CLKOUT (out) "Output Clock Signal for PolyPhase Operation. The phase of CLKOUT with respect to CLKIN is determined by the state of the PHMODE pin. CLKOUT’s peak-to-peak amplitude is INTVCC to GND.", 24 CLKIN (in) "External Synchronization Input to Phase Detector. This pin is internally terminated to SGND with 20k. The phase-locked loop will force the top power NMOS’s turn on signal to be synchronized with the rising edge of th(See Datasheet)", 25 EP (power) "Power Ground. Return path of internal power MOSFETs. Connect this pin to the negative terminals of the input capacitor and output capacitor. The exposed pad must be soldered to the PCB ground for electrical contact and rated (See Datasheet)"

## LTC3605AIUF#PBF
designator U?
5 A Synchronous Step-Down Regulator, 24-pin QFN (UF-24), -40 to 125 degC, Pb-Free; Manufacturer: Linear Technology; PartNumber: LTC3605AIUF#PBF; Number of Outputs: 1; PackageReference: UF24; PackageDescription: 24-Pin Plastic QFN, Body 4 x 4 mm, Pitch 0.5 mm; Supplier 1: Digi-Key; Supplier Part Number 1: LTC3605AIUF#PBF-ND; RoHS: TRUE; Code_JEDEC: MO-220
footprint LT-UF-24_N (QFN, 24-Leads, Body 4.1x4.1mm, Pitch 0.5mm, Thermal Pad 2.45x2.45mm, IPC Medium Density)
footprint LT-UF-24_L (QFN, 24-Leads, Body 4.1x4.1mm, Pitch 0.5mm, Thermal Pad 2.45x2.45mm, IPC High Density)
footprint LT-UF-24_M (QFN, 24-Leads, Body 4.1x4.1mm, Pitch 0.5mm, Thermal Pad 2.45x2.45mm, IPC Low Density)
pins: 1 RT "Oscillator Frequency Programming Pin. Connect an external resistor (between 200k to 40k) from RT to SGND to program the frequency from 800kHz to 4MHz. Since the synchronization range is +/-30% of set frequency, be sure that (See Datasheet)", 2 PHMODE (in) "Control Input to Phase Selector. Determines the phase relationship between internal oscillator and CLKOUT. Tie it to INTVCC for 2-phase operation, tie it to SGND for 3-phase operation, and tie it to INTVCC/2 for 4-phase (See Datasheet)", 3 MODE (in) "Operation Mode Select. Tie this pin to INTVCC to force continuous synchronous operation at all output loads. Tying it to SGND enables discontinuous mode operation at light loads. Tying this pin to INTVCC/2 shuts off the (See Datasheet)", 4 FB (in) "Output Feedback Voltage. Input to the error amplifier that compares the feedback voltage to the internal 0.6V reference voltage. This pin is normally connected to a resistive divider from the output voltage.", 5 TRACK/SS (in) "Output Tracking and Soft-Start Pin. Allows the user to control the rise time of the output voltage. Putting a voltage below 0.6V on this pin bypasses the internal reference input to the error amplifier, instead it servos the (See Datasheet)", 6 ITH "Error Amplifier Output and Switching Regulator Compensation Point. The current comparator’s trip threshold is linearly proportional to this voltage, whose normal range is from 0.3V to 1.8V. Tying this pin to INTVC(See Datasheet)", 7 RUN (in) "Run Control Input. Enables chip operation by tying RUN above 1.2V. Tying it below 1.1V shuts down the part.", 8 PGOOD (oc) "Output Power Good with Open-Drain Logic. PGOOD is pulled to ground when the voltage on the FB pin is not within +/-10% of the internal 0.6V reference.", 9 VON (in) "On-Time Voltage Input. Voltage trip point for the on-time comparator. Tying this pin to the output voltage makes the on-time proportional to VOUT and keeps the switching frequency constant at different VOUT. However, when (See Datasheet)", 10 PGND (power) "Power Ground. Return path of internal power MOSFETs. Connect this pin to the negative terminals of the input capacitor and output capacitor. The exposed pad must be soldered to the PCB ground for electrical contact and rated (See Datasheet)", 11 SW (power) "Switch Node Connection to External Inductor. Voltage swing of SW is from a diode voltage drop below ground to PVIN.", 12 SW (power) "Switch Node Connection to External Inductor. Voltage swing of SW is from a diode voltage drop below ground to PVIN.", 13 SW (power) "Switch Node Connection to External Inductor. Voltage swing of SW is from a diode voltage drop below ground to PVIN.", 14 SW (power) "Switch Node Connection to External Inductor. Voltage swing of SW is from a diode voltage drop below ground to PVIN.", 15 SW (power) "Switch Node Connection to External Inductor. Voltage swing of SW is from a diode voltage drop below ground to PVIN.", 16 SW (power) "Switch Node Connection to External Inductor. Voltage swing of SW is from a diode voltage drop below ground to PVIN.", 17 PVIN (power) "Power VIN. Input voltage to the onchip power MOSFETs.", 18 PVIN (power) "Power VIN. Input voltage to the onchip power MOSFETs.", 19 SVIN (power) "Signal VIN. Filtered input voltage to the on-chip 3.3V regulator. Connect a (1ohm to 10ohm) resistor between SVIN and PVIN and bypass to GND with a 0.1uF capacitor.", 20 BOOST "Boosted Floating Driver Supply for Internal Top Power MOSFET. The (+) terminal of the bootstrap capacitor connects here. This pin swings from a diode voltage drop below INTVCC up to PVIN + INTVCC.", 21 INTVCC (power) "Internal 3.3V Regulator Output. The internal power drivers and control circuits are powered from this voltage. Decouple this pin to power ground with a minimum of 1uF low ESR ceramic capacitor.", 22 SGND (power) "Signal Ground Connection.", 23 CLKOUT (out) "Output Clock Signal for PolyPhase Operation. The phase of CLKOUT with respect to CLKIN is determined by the state of the PHMODE pin. CLKOUT’s peak-to-peak amplitude is INTVCC to GND.", 24 CLKIN (in) "External Synchronization Input to Phase Detector. This pin is internally terminated to SGND with 20k. The phase-locked loop will force the top power NMOS’s turn on signal to be synchronized with the rising edge of th(See Datasheet)", 25 EP (power) "Power Ground. Return path of internal power MOSFETs. Connect this pin to the negative terminals of the input capacitor and output capacitor. The exposed pad must be soldered to the PCB ground for electrical contact and rated (See Datasheet)"